# EAGLE library part LMV324 (library TI)
Ouad, Rail-to-Rail Output Operational Amplifier
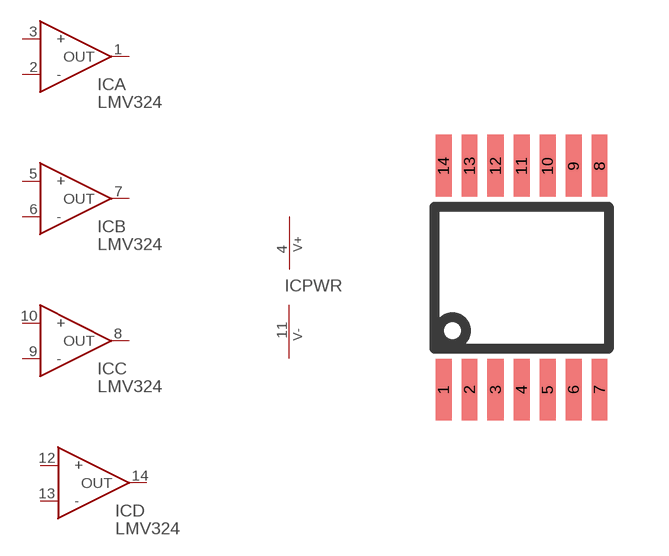
[diagram p27: symbol with the pads of MSOP14; footprint MSOP14]

Designator prefix IC; gates A=OPAMP B=OPAMP C=OPAMP D=OPAMP PWR=ICPWR-V+-V-

## LMV324PW  [MSOP14]
1  A:OUT
2  A:-
3  A:+
4  PWR:V+  pwr
5  B:+
6  B:-
7  B:OUT
8  C:OUT
9  C:-
10  C:+
11  PWR:V-  pwr
12  D:+
13  D:-
14  D:OUT

## Footprint MSOP14 (pad centres in mm)
Texas Instrumets 14 lead MSOP package
smd 0.4 x 1.55: 1 -1.95,-2.8; 2 -1.3,-2.8; 3 -0.65,-2.8; 4 0,-2.8; 5 0.65,-2.8; 6 1.3,-2.8; 7 1.95,-2.8; 8 1.95,2.8; 9 1.3,2.8; 10 0.65,2.8; 11 0,2.8; 12 -0.65,2.8; 13 -1.3,2.8; 14 -1.95,2.8